# EAGLE library part CM1224 (library di_ic)
ON Semi - CM1224 - 2 and 4-Channel, Low Capacitance, ESD Protection Arrays http://www.onsemi.com/pub_link/Collateral/CM1224-D.PDF
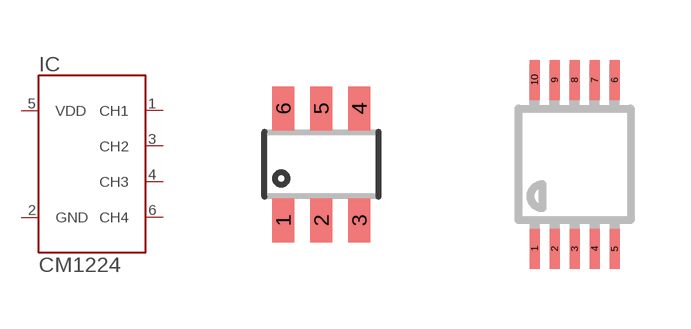
[diagram p60: symbol with the pads of SOT23-6; footprints SOT23-6, MSOP10]

Designator prefix IC

## CM1224SOT23-6  [SOT23-6]
1  CH1
2  GND  pwr
3  CH2
4  CH3
5  VDD  pwr
6  CH4

## CM1224MSOP10  [MSOP10]
1  CH1
3  VDD  pwr
4  CH2
6  CH3
8  GND  pwr
9  CH4

## Footprint SOT23-6 (pad centres in mm)
Small Outline Transistor
smd 0.55 x 1.1: 1 -0.95,-1.4; 2 0,-1.4; 3 0.95,-1.4; 4 0.95,1.4; 5 0,1.4; 6 -0.95,1.4

## Footprint MSOP10 (pad centres in mm)
10-Lead Mini Small Outline Package [MSOP] (RM-10) Source: http://www.analog.com/UploadedFiles/Data_Sheets/35641221898805SSM2167_b.pdf COMPLIANT TO JEDEC STANDARDS MO-187BA
smd 0.25 x 1: 1 -1,-2.113; 2 -0.5,-2.113; 3 0,-2.113; 4 0.5,-2.113; 5 1,-2.113; 6 1,2.113; 7 0.5,2.113; 8 0,2.113; 9 -0.5,2.113; 10 -1,2.113